# Altium schematic symbol library NVMFS6H801NL.Schlib: 1 symbol
Pins are listed as number, name and electrical type; pins without a type are passive.

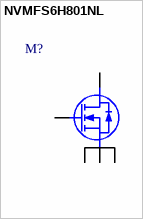
[diagram p0: symbol NVMFS6H801NL]

## NVMFS6H801NL
designator M?
80V 157A N-Channel 2.3mR 64nC
pins: 1 S, 2 S, 3 S, 4 G, 5 D